# Altium schematic symbol library BLDC_Schematic_Library.SchLib: 22 symbols
Pins are listed as number, name and electrical type; pins without a type are passive.

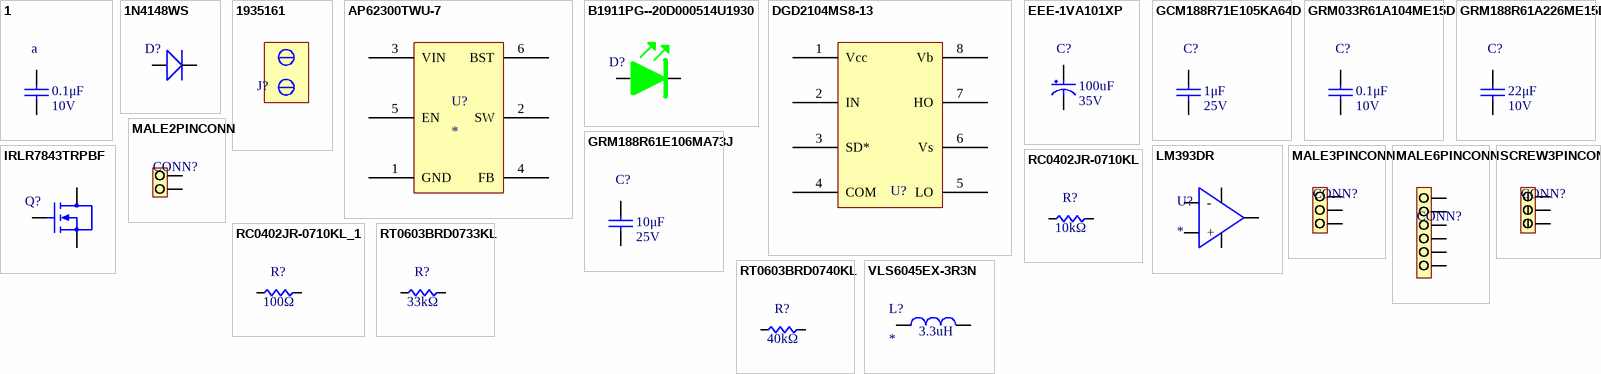
[diagram p0: symbols 1 to VLS6045EX-3R3N]

## 1
designator a  value 0.1μF  Voltage Rating: 10V
bruh; Manufacturer 1: Murata; Manufacturer Part Number 1: GCM21BR71E105KA56L; Supplier 1: Digi-Key; Supplier Part Number 1: 490-4785-1-ND
footprint CAP0603 (0.063" L x 0.031" W (1.60mm x 0.80mm))
pins: 1, 2

## 1N4148WS
designator D?
DIODE GEN PURP 75V 150MA SOD323F; Manufacturer: Onsemi; Manufacturer Part Number: 1N4148WS; Supplier: DigiKey; Supplier Part Number: 1N4148WSFSTR-ND
footprint SOD_323
pins: 1, 2

## 1935161
designator J?
TERM BLK 2POS SIDE ENTRY 5MM PCB; Manufacturer: Phoenix Contact; Manufacturer Part Number: 1935161; Supplier: DigiKey; Supplier Part Number: 277-1667-ND
footprint 2PORT-CN

## AP62300TWU-7
designator U?
IC REG BUCK ADJ 2A TSOT26; Manufacturer: Diodes Inc.; Manufacturer Part Number: AP62200WU-7; Supplier: DigiKey; Supplier Part Number: 31-AP62200WU-7TR-ND
footprint TSOT26
pins: 1 GND, 2 SW, 3 VIN, 4 FB, 5 EN, 6 BST

## B1911PG--20D000514U1930
designator D?
LED GREEN DIFFUSED 0603 SMD
footprint LED0603 (0603 LED)
pins: 1, 2

## DGD2104MS8-13
designator U?
IC GATE DRVR HALF-BRIDGE 8-SO; Manufacturer: Diodes Incorporated; Manufacturer Part Number: DGD2104MS8-13; Supplier: DigiKey; Supplier Part Number: DGD2104MS8-13DITR-ND
footprint 8SO
pins: 1 Vcc, 2 IN, 3 SD*, 4 COM, 5 LO, 6 Vs, 7 HO, 8 Vb

## EEE-1VA101XP
designator C?  Capacitance: 100uF  Voltage Rating: 35V
CAP ALUM 100UF 20% 35V SMD
footprint SMD (0.260" L x 0.260" W (6.60mm x 6.60mm))
pins: 1, 2

## GCM188R71E105KA64D
designator C?  value 1μF  Voltage Rating: 25V
CAP CER 1UF 25V X7R 0603; Manufacturer 1: Murata; Manufacturer Part Number 1: GCM21BR71E105KA56L; Supplier 1: Digi-Key; Supplier Part Number 1: 490-4785-1-ND
footprint CAP0603 (0.063" L x 0.031" W (1.60mm x 0.80mm))
pins: 1, 2

## GRM033R61A104ME15D
designator C?  value 0.1μF  Voltage Rating: 10V
CAP CER 0.1UF 10V X5R 0603; Manufacturer 1: Murata; Manufacturer Part Number 1: GCM21BR71E105KA56L; Supplier 1: Digi-Key; Supplier Part Number 1: 490-4785-1-ND
footprint CAP0603 (0.063" L x 0.031" W (1.60mm x 0.80mm))
pins: 1, 2

## GRM188R61A226ME15D
designator C?  value 22μF  Voltage Rating: 10V
CAP CER 22UF 10V X5R 0603; Manufacturer 1: Murata; Manufacturer Part Number 1: GCM21BR71E105KA56L; Supplier 1: Digi-Key; Supplier Part Number 1: 490-4785-1-ND
footprint CAP0603 (0.063" L x 0.031" W (1.60mm x 0.80mm))
pins: 1, 2

## GRM188R61E106MA73J
designator C?  value 10μF  Voltage Rating: 25V
CAP CER 10UF 25V X5R 0603; Manufacturer 1: Murata; Manufacturer Part Number 1: GCM21BR71E105KA56L; Supplier 1: Digi-Key; Supplier Part Number 1: 490-4785-1-ND
footprint CAP0603 (0.063" L x 0.031" W (1.60mm x 0.80mm))
pins: 1, 2

## IRLR7843TRPBF
designator Q?
N-Channel 30 V 161A (Tc) 140W (Tc) Surface Mount TO-252AA (DPAK); Manufacturer: Infineon Technologies; Manufacturer Part Number: IRLR7843TRPBF; Supplier: DigiKey; Supplier Part Number: IIRLR7843PBFTR-ND
footprint TO-252AA (DPAK) (Mofset Footprint)
pins: 1, 2, 3

## LM393DR
designator U?
Manufacturer: Texas Instruments; Manufacturer Part Number: LM393DR; Supplier: DigiKey; Supplier Part Number: 296-1015-2-ND
footprint SOT25
pins: 1 -, 2 GND, 3 +, 4 VOUT, 5 VCC

## MALE2PINCONN
designator CONN?  (value not drawn)
footprint 2POS HEADER (2 male connectors)
pins: 1, 2

## MALE3PINCONN
designator CONN?  (value not drawn)
footprint 3POS HEADER
pins: 1, 2, 3

## MALE6PINCONN
designator CONN?  (value not drawn)
footprint 6POS HEADER (CONN HEADER VERT 6POS 2.54MM)
pins: 1, 2, 3, 4, 5, 6

## RC0402JR-0710KL
designator R?  value 10kΩ
RES 10K OHM 5% 1/16W 0402; Manufacturer 1: Stackpole Electronics Inc; Manufacturer Part Number 1: RNCP0603FTD10K0; Power Rating: 1/8W; Supplier Part Number 1: RNCP0603FTD10K0CT-ND; Supplier 1: Digi-Key
footprint RES0402 (Chip Resistor, Body 1x0.5mm, IPC Medium Density)
pins: 1, 2

## RC0402JR-0710KL_1
designator R?  value 100Ω
RES 100 OHM 1% 1/10W 0603; Manufacturer 1: Stackpole Electronics Inc; Manufacturer Part Number 1: RNCP0603FTD10K0; Power Rating: 1/8W; Supplier Part Number 1: RNCP0603FTD10K0CT-ND; Supplier 1: Digi-Key
footprint RES0603 (Chip Resistor, Body 1.6x0.8mm, IPC Medium Density)
pins: 1, 2

## RT0603BRD0733KL
designator R?  value 33kΩ
RES SMD 33K OHM 0.1% 1/10W 0603; Manufacturer 1: Stackpole Electronics Inc; Manufacturer Part Number 1: RNCP0603FTD10K0; Power Rating: 1/8W; Supplier Part Number 1: RNCP0603FTD10K0CT-ND; Supplier 1: Digi-Key
footprint RES0603 (Chip Resistor, Body 1.6x0.8mm, IPC Medium Density)
pins: 1, 2

## RT0603BRD0740KL
designator R?  value 40kΩ
RES 40K OHM 0.1% 1/10W 0603; Manufacturer 1: Stackpole Electronics Inc; Manufacturer Part Number 1: RNCP0603FTD10K0; Power Rating: 1/8W; Supplier Part Number 1: RNCP0603FTD10K0CT-ND; Supplier 1: Digi-Key
footprint RES0603 (Chip Resistor, Body 1.6x0.8mm, IPC Medium Density)
pins: 1, 2

## SCREW3PINCONN
designator CONN?  (value not drawn)
footprint SCREW3POSCONN (3 Position Wire to Board Terminal Block Horizontal with Board 0.200" (5.08mm) Through Hole)
pins: 1, 2, 3

## VLS6045EX-3R3N
designator L?
FIXED IND 3.3UH 4.95A 30MOHM SMD; Manufacturer: TDK Corp.; Manufacturer Part Number: VLS201612CX-4R7M-1; Supplier: DigiKey; Supplier Part Number: 445-172965-2-ND
footprint VLS6045EX (0.236" L x 0.236" W (6.00mm x 6.00mm))
pins: 1, 2
text: 3.3uH